# Altium footprint library ic_ru.PcbLib: 27 footprints (part 1 of 2)
Each footprint in its own frame and in the unit in brackets; x right, y up, seen from the top. Pads: shape width x height; smd on the part's side, far side on the other; paste and mask are expansions set on the pad; w line width, h text height; cw(c..) or ccw(c..) is an arc to the next point about the centre after c.
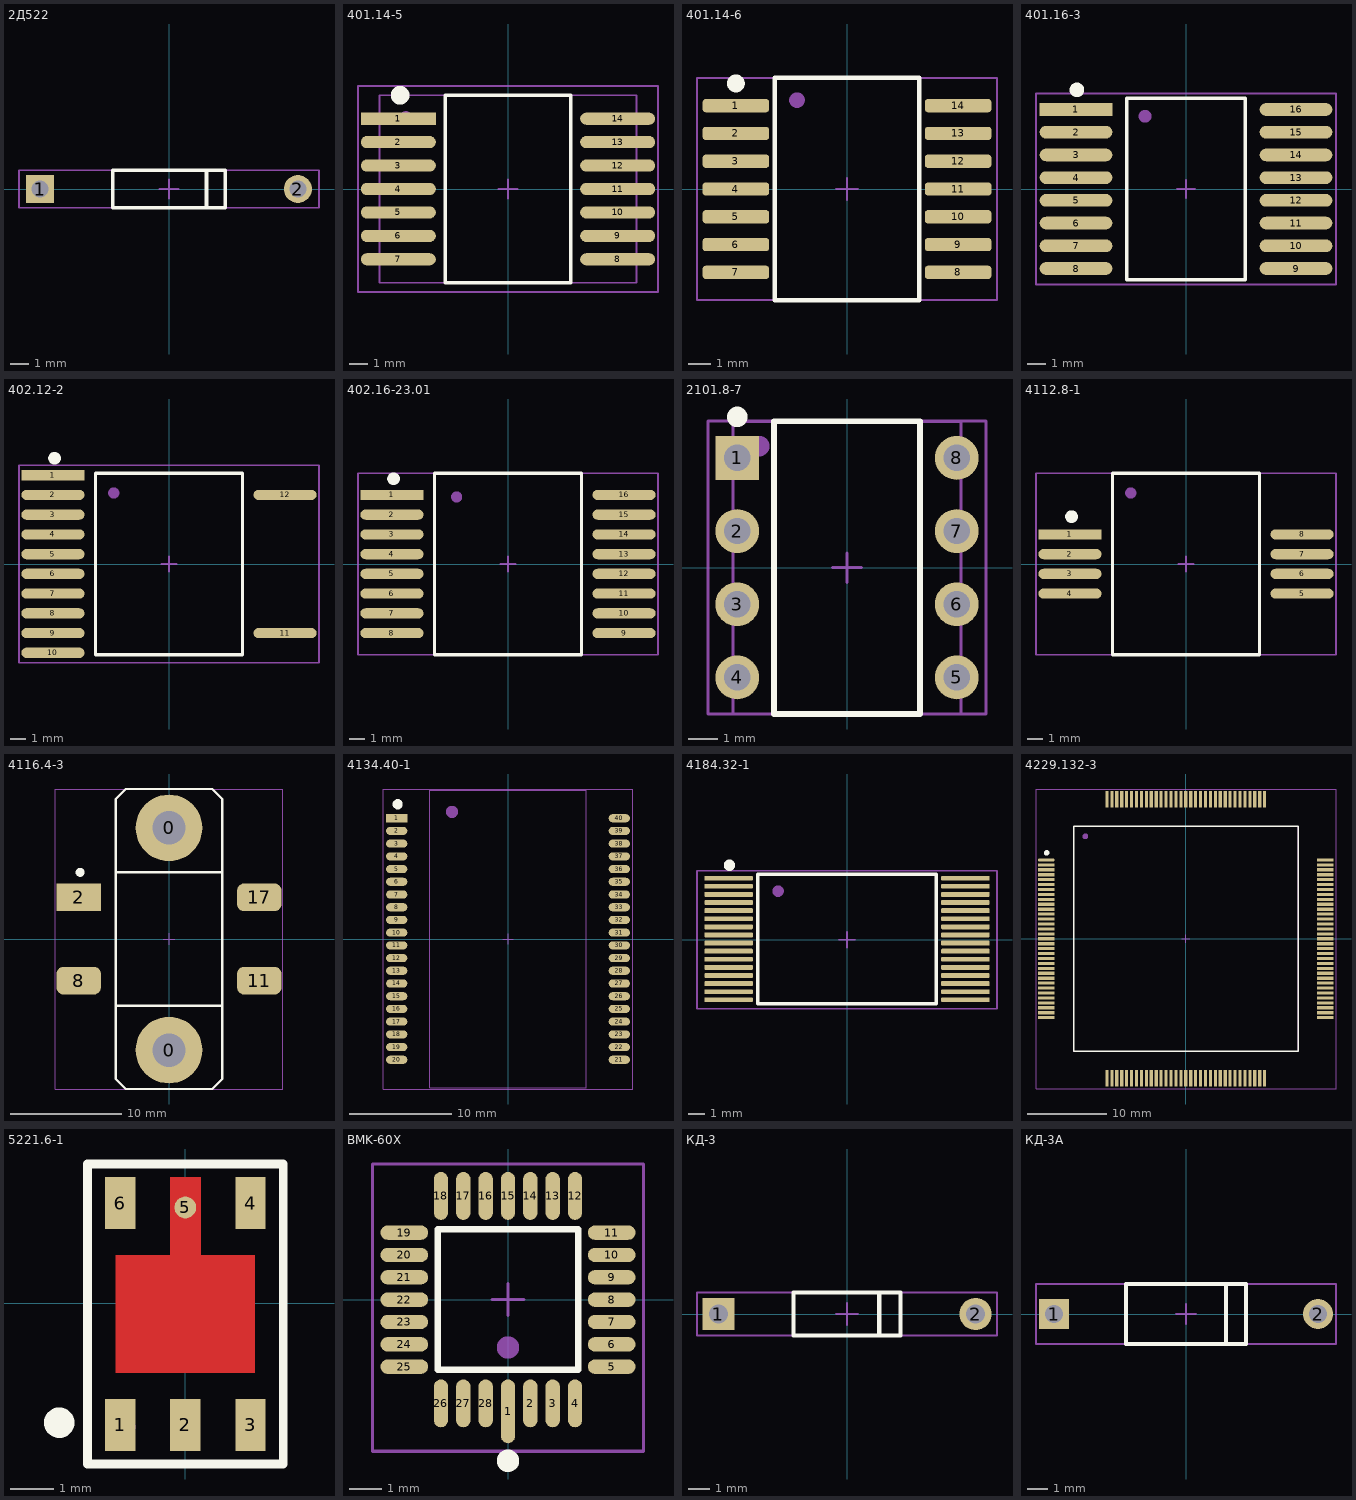
[diagram p0: the footprints below, top view; thin cyan lines are the x and y axes]

## 2Д522 [mm]
pads (2):
  rect 1.5x1.5 hole 0.9: 1(-6.875,0)
  round 1.5 hole 0.9: 2(6.875,0)
Top Overlay:
  lines w0.2: 2,-1 2,1 ; -3,-1 -3,1 3,1 3,-1 -3,-1
Top Assy:
  lines w0.1: 2,-1 2,1 ; -3,-1 3,-1 3,1 -3,1 -3,-1
Top Cortyard:
  lines w0.1: -0.5,0 0.5,0 ; 0,-0.5 0,0.5 ; -8,-1 8,-1 8,1 -8,1 -8,-1

## 401.14-5 [mm] "401.14-5, 14-Leads, Body 6.70x10.00x1.97mm, Pitch 1.25mm"
height 1.97
pads (14):
  rect 4x0.65 smd: 1(-5.85,3.75)
  oval 4x0.65 smd: 2(-5.85,2.5) 3(-5.85,1.25) 4(-5.85,0) 5(-5.85,-1.25) 6(-5.85,-2.5) 7(-5.85,-3.75) 8(5.85,-3.75) 9(5.85,-2.5) 10(5.85,-1.25) 11(5.85,0) 12(5.85,1.25) 13(5.85,2.5) 14(5.85,3.75)
Top Overlay:
  circle w0.8: c-5.75,5 r0.1
  lines w0.2: -3.35,-5 3.35,-5 3.35,5 -3.35,5 -3.35,-5
Top Assy:
  circle w0.5: c-5.45,3.8 r0.1
  lines w0.1: -6.85,-5 6.85,-5 6.85,5 -6.85,5 -6.85,-5
Top Cortyard:
  lines w0.1: -0.5,0 0.5,0 ; 0,-0.5 0,0.5 ; -8,-5.5 8,-5.5 8,5.5 -8,5.5 -8,-5.5
3D body "401.14-5.STEP": height 2.05, standoff 0.02, extent -6.84,-5 6.84,5

## 401.14-6 [mm]
height 0.076
pads (14):
  rrect50% 3x0.6 smd: 1(-5,3.75) 2(-5,2.5) 3(-5,1.25) 4(-5,0) 5(-5,-1.25) 6(-5,-2.5) 7(-5,-3.75) 8(5,-3.75) 9(5,-2.5) 10(5,-1.25) 11(5,0) 12(5,1.25) 13(5,2.5) 14(5,3.75)
Top Overlay:
  circle w0.6: c-5,4.75 r0.1
  lines w0.2: -3.25,-5 3.25,-5 3.25,5 -3.25,5 -3.25,-5
Top Assy:
  circle w0.5: c-2.25,4 r0.1
  lines w0.1: -3.25,-5 3.25,-5 3.25,5 -3.25,5 -3.25,-5
Top Cortyard:
  lines w0.1: -0.5,0 0.5,0 ; 0,-0.5 0,0.5 ; -6.75,-5 6.75,-5 6.75,5 -6.75,5 -6.75,-5

## 401.16-3 [mm] "401.14-5, 14-Leads, Body 6.50x10.00x2.50mm, Pitch 1.25mm"
height 2.5
pads (16):
  rect 4x0.7 smd: 1(-6.05,4.375)
  oval 4x0.7 smd: 2(-6.05,3.125) 3(-6.05,1.875) 4(-6.05,0.625) 5(-6.05,-0.625) 6(-6.05,-1.875) 7(-6.05,-3.125) 8(-6.05,-4.375) 9(6.05,-4.375) 10(6.05,-3.125) 11(6.05,-1.875) 12(6.05,-0.625) 13(6.05,0.625) 14(6.05,1.875) 15(6.05,3.125) 16(6.05,4.375)
Top Overlay:
  circle w0.6: c-6,5.45 r0.1
  lines w0.2: -3.25,-5 -3.25,5 3.25,5 3.25,-5 -3.25,-5
Top Assy:
  circle w0.5: c-2.25,4 r0.1
  lines w0.1: -3.25,-5 -3.25,5 3.25,5 3.25,-5 -3.25,-5
Top Cortyard:
  lines w0.1: -0.5,0 0.5,0 ; 0,-0.5 0,0.5 ; -8.25,-5.25 8.25,-5.25 8.25,5.25 -8.25,5.25 -8.25,-5.25

## 402.12-2 [mm] "402.12-2, 12-Leads, Body 7.8x12.0x2.5mm, Pitch 1.25mm"
height 2.5
pads (12):
  rect 4x0.65 smd: 1(-7.35,5.625)
  oval 4x0.65 smd: 2(-7.35,4.375) 3(-7.35,3.125) 4(-7.35,1.875) 5(-7.35,0.625) 6(-7.35,-0.625) 7(-7.35,-1.875) 8(-7.35,-3.125) 9(-7.35,-4.375) 10(-7.35,-5.625) 11(7.35,-4.375) 12(7.35,4.375)
Top Overlay:
  circle w0.6: c-7.25,6.7 r0.1
  lines w0.2: -4.65,-5.75 -4.65,5.75 4.65,5.75 4.65,-5.75 -4.65,-5.75
Top Assy:
  circle w0.5: c-3.5,4.5 r0.1
  lines w0.1: -4.65,-5.75 -4.65,5.75 4.65,5.75 4.65,-5.75 -4.65,-5.75
Top Cortyard:
  lines w0.1: -0.5,0 0.5,0 ; 0,-0.5 0,0.5 ; -9.5,-6.25 -9.5,6.25 9.5,6.25 9.5,-6.25 -9.5,-6.25

## 402.16-23.01 [mm] "402.16-23.01, 16-Leads, Body 9.30x11.50x2.5mm, Pitch 1.25mm"
height 2.5
pads (16):
  rect 4x0.65 smd: 1(-7.35,4.375)
  oval 4x0.65 smd: 2(-7.35,3.125) 3(-7.35,1.875) 4(-7.35,0.625) 5(-7.35,-0.625) 6(-7.35,-1.875) 7(-7.35,-3.125) 8(-7.35,-4.375) 9(7.35,-4.375) 10(7.35,-3.125) 11(7.35,-1.875) 12(7.35,-0.625) 13(7.35,0.625) 14(7.35,1.875) 15(7.35,3.125) 16(7.35,4.375)
Top Overlay:
  circle w0.6: c-7.25,5.4 r0.1
  lines w0.2: -4.65,-5.75 4.65,-5.75 4.65,5.75 -4.65,5.75 -4.65,-5.75
Top Assy:
  circle w0.5: c-3.25,4.25 r0.1
  lines w0.1: -4.65,-5.75 4.65,-5.75 4.65,5.75 -4.65,5.75 -4.65,-5.75
Top Cortyard:
  lines w0.1: -0.5,0 0.5,0 ; 0,-0.5 0,0.5 ; -9.5,-5.75 9.5,-5.75 9.5,5.75 -9.5,5.75 -9.5,-5.75

## 2101.8-7 [mm] "8-выводной металлокерамический корпус типа DIP"
height 5
pads (8):
  rect 1.5x1.5 hole 0.9: 1(-3.75,3.75)
  round 1.5 hole 0.9: 2(-3.75,1.25) 3(-3.75,-1.25) 4(-3.75,-3.75) 5(3.75,-3.75) 6(3.75,-1.25) 7(3.75,1.25) 8(3.75,3.75)
Top Overlay:
  circle w0.5: c-3.75,5.15 r0.1
  lines w0.2: -2.5,-5 2.5,-5 2.5,5 -2.5,5 -2.5,-5
Top Assy:
  circle w0.5: c-3,4.15 r0.1
  lines w0.1: -3.9,-5 3.9,-5 3.9,5 -3.9,5 -3.9,-5
Top Cortyard:
  lines w0.1: -0.5,0 0.5,0 ; 0,-0.5 0,0.5 ; -4.75,-5 4.75,-5 4.75,5.005 -4.75,5.005 -4.75,-5
3D body "User Library-2101_8-7.step": height 4.8, standoff -2.4, extent -3.91,-5 3.91,5

## 4112.8-1 [mm] "4112.8-1, 8-Leads, Body 9.30x11.50x2.45mm, Pitch 1.25mm"
height 2.45
pads (8):
  rect 4x0.65 smd: 1(-7.35,1.875)
  oval 4x0.65 smd: 2(-7.35,0.625) 3(-7.35,-0.625) 4(-7.35,-1.875) 5(7.35,-1.875) 6(7.35,-0.625) 7(7.35,0.625) 8(7.35,1.875)
Top Overlay:
  circle w0.6: c-7.25,3 r0.1
  lines w0.2: -4.65,-5.75 4.65,-5.75 4.65,5.75 -4.65,5.75 -4.65,-5.75
Top Assy:
  circle w0.5: c-3.5,4.5 r0.1
  lines w0.1: -4.65,-5.75 4.65,-5.75 4.65,5.75 -4.65,5.75 -4.65,-5.75
Top Cortyard:
  lines w0.1: -0.5,0 0.5,0 ; 0,-0.5 0,0.5 ; -9.5,-5.75 9.5,-5.75 9.5,5.75 -9.5,5.75 -9.5,-5.75

## 4116.4-3 [mm]
pads (6):
  round 6 hole 3: 0(0,-10) 0(0,10)
  rect 4x2.5 smd: 2(-8.125,3.75)
  rrect50% 4x2.5 smd: 8(-8.125,-3.75) 11(8.125,-3.75) 17(8.125,3.75)
Top Overlay:
  circle w0.6: c-8,6 r0.1
  lines w0.2: -4.8,-6 4.8,-6 ; -4.8,6 4.8,6 ; -4.8,-12.6 -4.8,12.6 -3.9,13.5 3.9,13.5 4.8,12.6 4.8,-12.6 3.9,-13.5 -3.9,-13.5 -4.8,-12.6
Top Assy:
  lines w0.1: -4.8,-12.6 -4.8,12.6 -3.9,13.5 3.9,13.5 4.8,12.6 4.8,-12.6 3.9,-13.5 -3.9,-13.5 -4.8,-12.6
Top Cortyard:
  lines w0.1: -0.5,0 0.5,0 ; 0,-0.5 0,0.5 ; -10.25,-13.5 10.25,-13.5 10.25,13.5 -10.25,13.5 -10.25,-13.5

## 4134.40-1 [mm]
height 4.2
pads (40):
  rect 2.1x0.8 smd: 1(-10.95,11.875)
  oval 2.1x0.8 smd: 2(-10.95,10.625) 3(-10.95,9.375) 4(-10.95,8.125) 5(-10.95,6.875) 6(-10.95,5.625) 7(-10.95,4.375) 8(-10.95,3.125) 9(-10.95,1.875) 10(-10.95,0.625) 11(-10.95,-0.625) 12(-10.95,-1.875) 13(-10.95,-3.125) 14(-10.95,-4.375) 15(-10.95,-5.625) 16(-10.95,-6.875) 17(-10.95,-8.125) 18(-10.95,-9.375) 19(-10.95,-10.625) 20(-10.95,-11.875) 21(10.95,-11.875) 22(10.95,-10.625) 23(10.95,-9.375) 24(10.95,-8.125) 25(10.95,-6.875) 26(10.95,-5.625) 27(10.95,-4.375) 28(10.95,-3.125) 29(10.95,-1.875) 30(10.95,-0.625) 31(10.95,0.625) 32(10.95,1.875) 33(10.95,3.125) 34(10.95,4.375) 35(10.95,5.625) 36(10.95,6.875) 37(10.95,8.125) 38(10.95,9.375) 39(10.95,10.625) 40(10.95,11.875)
Top Overlay:
  circle w0.8: c-10.85,13.25 r0.1
Top Assy:
  circle w1: c-5.5,12.5 r0.1
  lines w0.1: -7.7,-14.625 7.7,-14.625 7.7,14.625 -7.7,14.625 -7.7,-14.625
Top Cortyard:
  lines w0.1: -0.5,0 0.5,0 ; 0,-0.5 0,0.5 ; -12.25,-14.75 -12.25,14.75 12.25,14.75 12.25,-14.75 -12.25,-14.75

## 4184.32-1 [mm]
height 0.076
pads (32):
  rrect50% 3x0.3 smd: 1(-7.3,3.8) 2(-7.3,3.3) 3(-7.3,2.8) 4(-7.3,2.3) 5(-7.3,1.8) 6(-7.3,1.3) 7(-7.3,0.8) 8(-7.3,0.3) 9(-7.3,-0.2) 10(-7.3,-0.7) 11(-7.3,-1.2) 12(-7.3,-1.7) 13(-7.3,-2.2) 14(-7.3,-2.7) 15(-7.3,-3.2) 16(-7.3,-3.7) 17(7.3,-3.7) 18(7.3,-3.2) 19(7.3,-2.7) 20(7.3,-2.2) 21(7.3,-1.7) 22(7.3,-1.2) 23(7.3,-0.7) 24(7.3,-0.2) 25(7.3,0.3) 26(7.3,0.8) 27(7.3,1.3) 28(7.3,1.8) 29(7.3,2.3) 30(7.3,2.8) 31(7.3,3.3) 32(7.3,3.8)
Top Overlay:
  circle w0.5: c-7.25,4.6 r0.1
  lines w0.2: -5.5,-3.95 -5.5,4.05 5.5,4.05 5.5,-3.95 -5.5,-3.95
Top Assy:
  circle w0.5: c-4.25,3 r0.1
  lines w0.1: -5.5,-3.95 5.5,-3.95 5.5,4.05 -5.5,4.05 -5.5,-3.95
Top Cortyard:
  lines w0.1: -0.5,0 0.5,0 ; 0,-0.5 0,0.5 ; -9.25,-4.25 9.25,-4.25 9.25,4.25 -9.25,4.25 -9.25,-4.25

## 4229.132-3 [mm]
height 3.8
pads (132):
  rrect100% 2.1x0.4 smd: 1(-17.7,10)
  rect 2.1x0.4 smd: 2(-17.7,9.375) 3(-17.7,8.75) 4(-17.7,8.125) 5(-17.7,7.5) 6(-17.7,6.875) 7(-17.7,6.25) 8(-17.7,5.625) 9(-17.7,5) 10(-17.7,4.375) 11(-17.7,3.75) 12(-17.7,3.125) 13(-17.7,2.5) 14(-17.7,1.875) 15(-17.7,1.25) 16(-17.7,0.625) 17(-17.7,0) 18(-17.7,-0.625) 19(-17.7,-1.25) 20(-17.7,-1.875) 21(-17.7,-2.5) 22(-17.7,-3.125) 23(-17.7,-3.75) 24(-17.7,-4.375) 25(-17.7,-5) 26(-17.7,-5.625) 27(-17.7,-6.25) 28(-17.7,-6.875) 29(-17.7,-7.5) 30(-17.7,-8.125) 31(-17.7,-8.75) 32(-17.7,-9.375) 33(-17.7,-10) 67(17.7,-10) 68(17.7,-9.375) 69(17.7,-8.75) 70(17.7,-8.125) 71(17.7,-7.5) 72(17.7,-6.875) 73(17.7,-6.25) 74(17.7,-5.625) 75(17.7,-5) 76(17.7,-4.375) 77(17.7,-3.75) 78(17.7,-3.125) 79(17.7,-2.5) 80(17.7,-1.875) 81(17.7,-1.25) 82(17.7,-0.625) 83(17.7,0) 84(17.7,0.625) 85(17.7,1.25) 86(17.7,1.875) 87(17.7,2.5) 88(17.7,3.125) 89(17.7,3.75) 90(17.7,4.375) 91(17.7,5) 92(17.7,5.625) 93(17.7,6.25) 94(17.7,6.875) 95(17.7,7.5) 96(17.7,8.125) 97(17.7,8.75) 98(17.7,9.375) 99(17.7,10)
  rect 0.4x2.1 smd: 34(-10,-17.7) 35(-9.375,-17.7) 36(-8.75,-17.7) 37(-8.125,-17.7) 38(-7.5,-17.7) 39(-6.875,-17.7) 40(-6.25,-17.7) 41(-5.625,-17.7) 42(-5,-17.7) 43(-4.375,-17.7) 44(-3.75,-17.7) 45(-3.125,-17.7) 46(-2.5,-17.7) 47(-1.875,-17.7) 48(-1.25,-17.7) 49(-0.625,-17.7) 50(0,-17.7) 51(0.625,-17.7) 52(1.25,-17.7) 53(1.875,-17.7) 54(2.5,-17.7) 55(3.125,-17.7) 56(3.75,-17.7) 57(4.375,-17.7) 58(5,-17.7) 59(5.625,-17.7) 60(6.25,-17.7) 61(6.875,-17.7) 62(7.5,-17.7) 63(8.125,-17.7) 64(8.75,-17.7) 65(9.375,-17.7) 66(10,-17.7) 100(10,17.7) 101(9.375,17.7) 102(8.75,17.7) 103(8.125,17.7) 104(7.5,17.7) 105(6.875,17.7) 106(6.25,17.7) 107(5.625,17.7) 108(5,17.7) 109(4.375,17.7) 110(3.75,17.7) 111(3.125,17.7) 112(2.5,17.7) 113(1.875,17.7) 114(1.25,17.7) 115(0.625,17.7) 116(0,17.7) 117(-0.625,17.7) 118(-1.25,17.7) 119(-1.875,17.7) 120(-2.5,17.7) 121(-3.125,17.7) 122(-3.75,17.7) 123(-4.375,17.7) 124(-5,17.7) 125(-5.625,17.7) 126(-6.25,17.7) 127(-6.875,17.7) 128(-7.5,17.7) 129(-8.125,17.7) 130(-8.75,17.7) 131(-9.375,17.7) 132(-10,17.7)
Top Overlay:
  circle w0.5: c-17.65,10.9 r0.1
  lines w0.2: -14.2,-14.25 -14.2,14.25 14.25,14.25 14.25,-14.25 -14.2,-14.25
Top Assy:
  circle w0.5: c-12.75,13 r0.1
  lines w0.1: -14.2,-14.25 14.25,-14.25 14.25,14.25 -14.2,14.25 -14.2,-14.25
Top Cortyard:
  lines w0.1: -0.5,0 0.5,0 ; 0,-0.5 0,0.5 ; -19,-19 -19,18.95 19.05,18.95 19.05,-19 -19,-19

## 5221.6-1 [mm]
height 1.7
pads (6):
  rect 0.7x1.2 smd: 1(-1.5,-2.8) 2(0,-2.8) 3(1.5,-2.8) 4(1.5,2.3) 6(-1.5,2.3)
  round 0.5 smd: 5(0,2.2)
Top Layer:
  region: 0.35,2.9 -0.35,2.9 -0.35,1.1 -1.6,1.1 -1.6,-1.6 1.6,-1.6 1.6,1.1 0.35,1.1
Top Overlay:
  circle w0.5: c-2.9,-2.75 r0.1
  lines w0.2: -2.25,-3.7 2.25,-3.7 2.25,3.2 -2.25,3.2 -2.25,-3.7
Top Assy:
  circle w0.5: c-1.5,-2.85 r0.1
  lines w0.1: -2.25,-3.7 2.25,-3.7 2.25,3.2 -2.25,3.2 -2.25,-3.7
Top Cortyard:
  lines w0.1: -0.5,0 0.5,0 ; 0,-0.5 0,0.5 ; -2.25,-3.7 -2.25,3.2 2.25,3.2 2.25,-3.7 -2.25,-3.7

## BMK-60X [mm]
pads (28):
  oval 0.45x2 smd: 1(0,-3.5)
  oval 0.45x1.5 smd: 2(0.7,-3.25) 3(1.4,-3.25) 4(2.1,-3.25) 12(2.1,3.25) 13(1.4,3.25) 14(0.7,3.25) 15(0,3.25) 16(-0.7,3.25) 17(-1.4,3.25) 18(-2.1,3.25) 26(-2.1,-3.25) 27(-1.4,-3.25) 28(-0.7,-3.25)
  oval 1.5x0.45 smd: 5(3.25,-2.1) 6(3.25,-1.4) 7(3.25,-0.7) 8(3.25,0) 9(3.25,0.7) 10(3.25,1.4) 11(3.25,2.1) 19(-3.25,2.1) 20(-3.25,1.4) 21(-3.25,0.7) 22(-3.25,0) 23(-3.25,-0.7) 24(-3.25,-1.4) 25(-3.25,-2.1)
Top Overlay:
  circle w0.5: c0,-5.05 r0.1
  lines w0.2: -2.2,-2.2 2.2,-2.2 2.2,2.2 -2.2,2.2 -2.2,-2.2
Top Assy:
  circle w0.5: c0,-1.5 r0.1
  lines w0.1: -2.2,-2.2 2.2,-2.2 2.2,2.2 -2.2,2.2 -2.2,-2.2
Top Cortyard:
  lines w0.1: -0.5,0 0.5,0 ; 0,-0.5 0,0.5 ; -4.25,-4.75 4.25,-4.75 4.25,4.25 -4.25,4.25 -4.25,-4.75

## КД-3 [mm]
pads (2):
  rect 1.5x1.5 hole 0.9: 1(-6,0)
  round 1.5 hole 0.9: 2(6,0)
Top Overlay:
  lines w0.2: 1.5,-1 1.5,1 ; -2.5,-1 -2.5,1 2.5,1 2.5,-1 -2.5,-1
Top Assy:
  lines w0.1: 1.5,-1 1.5,1 ; -2.5,-1 2.5,-1 2.5,1 -2.5,1 -2.5,-1
Top Cortyard:
  lines w0.1: -0.5,0 0.5,0 ; 0,-0.5 0,0.5 ; -7,-1 7,-1 7,1 -7,1 -7,-1

## КД-3А [mm]
pads (2):
  rect 1.5x1.5 hole 0.9: 1(-6.6,0)
  round 1.5 hole 0.9: 2(6.6,0)
Top Overlay:
  lines w0.2: 2,-1.5 2,1.5 ; -3,-1.5 3,-1.5 3,1.5 -3,1.5 -3,-1.5
Top Assy:
  lines w0.1: 2,-1.5 2,1.5 ; -3,-1.5 3,-1.5 3,1.5 -3,1.5 -3,-1.5
Top Cortyard:
  lines w0.1: -0.5,0 0.5,0 ; 0,-0.5 0,0.5 ; -7.5,-1.5 -7.5,1.5 7.5,1.5 7.5,-1.5 -7.5,-1.5